# EAGLE library part ZX62-AB-5PA(11) (library hirose-zx)
Micro USB Connector HI-SPEED Certified Source: https://www.hirose.co.jp/catalogj_hp/jd_ZX_20140305.pdf
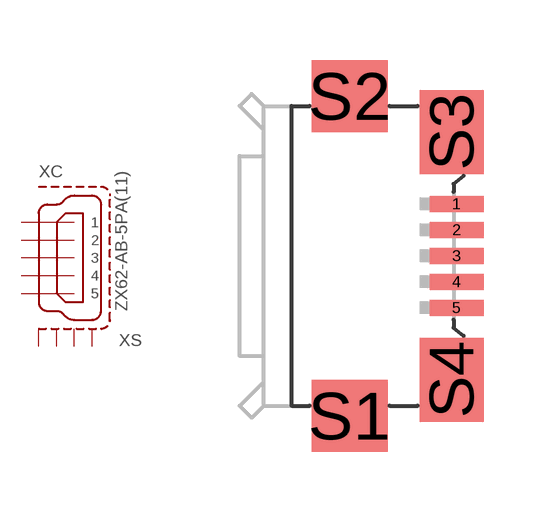
[diagram p1: symbol with the pads of ZX62-AB-5PA(11); footprint ZX62-AB-5PA(11)]

Designator prefix X; gates C=MICRO-USB S=SHIELD-4

## ZX62-AB-5PA(11)  [ZX62-AB-5PA(11)]
1  C:1  pwr
2  C:2  out
3  C:3
4  C:4  pas
5  C:5  pwr
S1  S:S1  pas
S2  S:S2  pas
S3  S:S3  pas
S4  S:S4  pas

## Footprint ZX62-AB-5PA(11) (pad centres in mm)
smd 1.35 x 0.4: 1 2.675,1.3; 2 2.675,0.65; 3 2.675,0; 4 2.675,-0.65; 5 2.675,-1.3
smd 1.9 x 1.8: S1 0,-4; S2 0,4
smd 1.6 x 2.1: S3 2.55,3.1; S4 2.55,-3.1